# Altium footprint library SATELLITE_4U_LASER_EXT_1.4.0.PcbLib: 9 footprints
Each footprint in its own frame and in the unit in brackets; x right, y up, seen from the top. Pads: shape width x height; smd on the part's side, far side on the other; paste and mask are expansions set on the pad; w line width, h text height; cw(c..) or ccw(c..) is an arc to the next point about the centre after c.
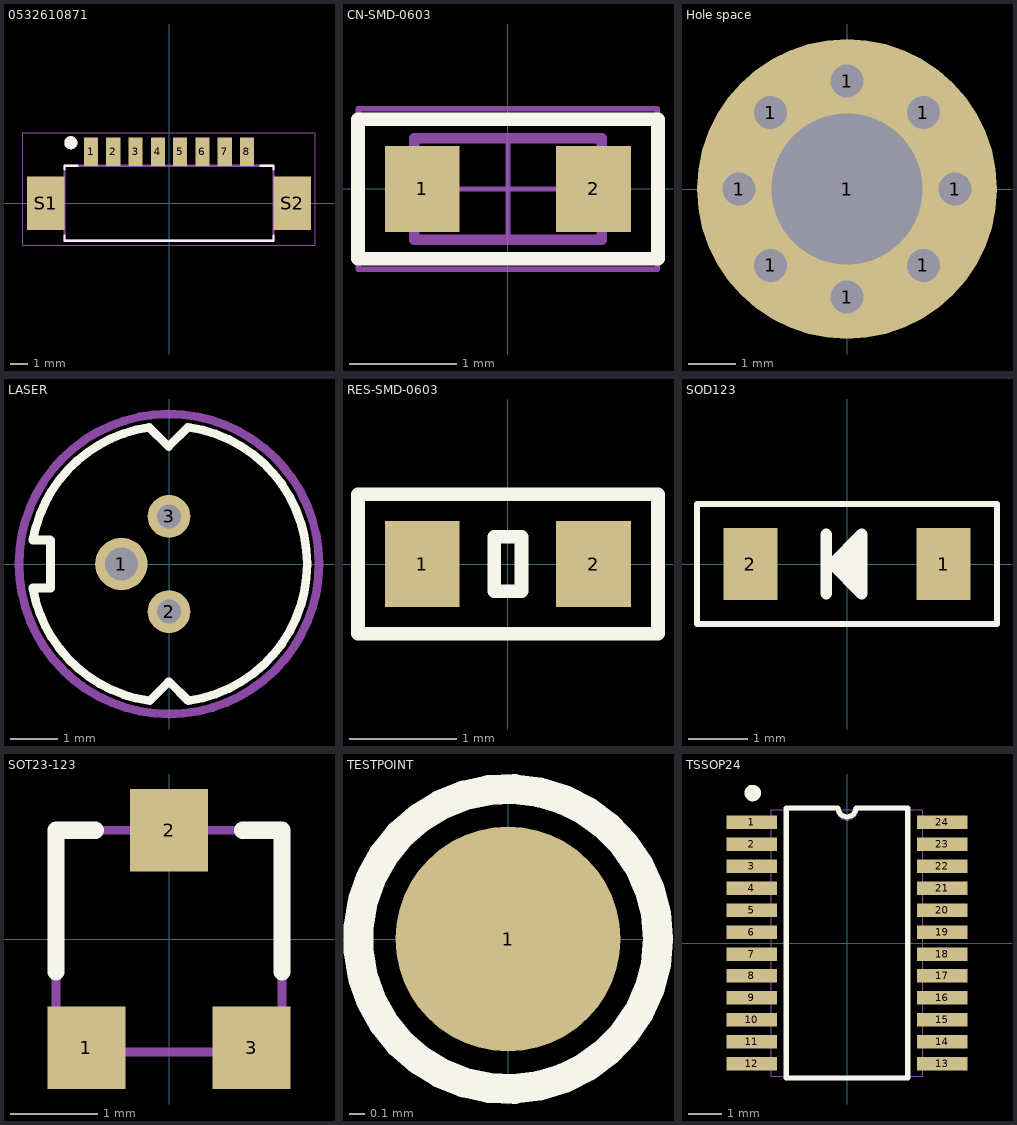
[diagram p0: the footprints below, top view; thin cyan lines are the x and y axes]

## 0532610871 [mm]
pads (10):
  rect 0.8x1.6 smd: 1(-4.375,2.9) 2(-3.125,2.9) 3(-1.875,2.9) 4(-0.625,2.9) 5(0.625,2.9) 6(1.875,2.9) 7(3.125,2.9) 8(4.375,2.9)
  rect 2.1x3 smd: S1(-6.925,0) S2(6.925,0)
Top Overlay:
  circle w0.381: c-5.515,3.4 r0.178
  lines w0.127: -5.875,-1.825 -5.875,-2.1 5.875,-2.1 5.875,-1.825 ; -5.875,1.9 -5.875,2.1 -5.15,2.1 ; 5.15,2.1 5.875,2.1 5.875,1.9
Top Assembly:
  circle w0.381: c-5.515,3.4 r0.178
  lines w0.127: -5.875,-2.1 5.875,-2.1 5.875,2.1 -5.875,2.1 -5.875,-2.1
  text "'.Designator'" at -9.318,-1.454 h1.8
Mechanical 15:
  lines w0.05: -8.225,-2.35 8.225,-2.35 8.225,3.95 -8.225,3.95 -8.225,-2.35
3D body "532610871.stp": height 3.2, standoff -0.2, extent -7.575,-1.8 7.575,3.4

## CN-SMD-0603 [mm]
pads (2):
  rect 0.7x0.8 smd: 1(-0.8,0) 2(0.8,0)
Top Overlay:
  lines w0.127: -1.4,-0.65 -1.4,0.651 1.401,0.651 1.401,-0.65 -1.4,-0.65
Top Courtyard:
  lines w0.05: -0.475,0 0.475,0 ; 0,-0.475 0,0.475 ; -1.397,-0.75 -1.397,0.75 1.397,0.75 1.397,-0.75 -1.397,-0.75
Top 3D Body:
  lines w0.1: -0.875,-0.475 -0.875,0.475 0.875,0.475 0.875,-0.475 -0.875,-0.475
3D body "User Library-0603 SMD Capacitor.step": height 0.3, standoff 0, extent -0.8,-0.4 0.8,0.4

## Hole space [mm]
pads (9):
  round 1 hole 0.7: 1(-2.286,0) 1(-1.616,-1.616) 1(-1.616,1.616) 1(0,-2.286) 1(0,2.286) 1(1.616,-1.616) 1(1.616,1.616) 1(2.286,0)
  round 6.35 hole 3.2: 1(0,0)

## LASER [mm]
pads (3):
  round 1.1 hole 0.7 mask+0.102: 1(-1,0)
  round 0.9 hole 0.5 mask+0.102: 2(0,-1) 3(0,1)
Top Overlay:
  lines w0.18: -2.864,-0.506 ccw(c-0.004,-0.002) -0.409,-2.877 -0.407,-2.877 -0.01,-2.48 0.009,-2.48 0.404,-2.875 ccw(c0,0) 0.404,2.875 ; -2.859,-0.504 -2.49,-0.504 -2.49,0.498 ; -2.496,0.504 -2.859,0.504 cw(c0,0) -0.413,2.874 ; -0.413,2.871 -0.009,2.466 0.398,2.873
Mechanical 15:
  lines w0.18: 3.152,0 cw(c0,0) 3.152,0.01
3D body "Laser diode ML101J25.SLDPRT": height 3.7, standoff -6.8, extent -2.759,-2.777 2.796,2.773

## RES-SMD-0603 [mm]
pads (2):
  rect 0.7x0.8 smd: 1(-0.8,0) 2(0.8,0)
Top Overlay:
  lines w0.127: -1.4,-0.65 -1.4,0.651 1.401,0.651 1.401,-0.65 -1.4,-0.65 ; -0.127,-0.254 -0.127,0.254 0.127,0.254 0.127,-0.254 -0.127,-0.254
3D body "User Library-SMD RESISTOR-1 (3).step": height 0.43, standoff -0.03, extent -0.8,-0.4 0.8,0.4

## SOD123 [mm]
pads (2):
  rect 0.91x1.22 smd: 1(1.635,0) 2(-1.635,0)
Top Overlay:
  lines w0.102: -2.54,-1.016 2.54,-1.016 2.54,1.016 -2.54,1.016 -2.54,-1.016
  lines w0.2: -0.35,-0.5 -0.35,0.5 ; 0,-0.15 0,-0.075 -0.075,0 0,0.075 0,0.15 ; 0.15,-0.3 0.15,0.3 ; -0.25,0 0.25,0.5 0.25,-0.5 -0.25,0
3D body "User Library-SOD-123.step": height 1.25, standoff 0, extent -1.849,-0.8 1.849,0.8

## SOT23-123 [mm]
pads (3):
  rect 0.9x0.95 smd: 1(-0.95,-1.25) 2(0,1.25) 3(0.95,-1.25)
Top Overlay:
  lines w0.2: -1.3,-0.375 -1.3,1.25 -0.85,1.25 ; 0.85,1.25 1.3,1.25 1.3,-0.375
Mechanical 7:
  rectangle: -0.3,1.25 0.3,1.5
  region: -0.625,-1.275 -1.225,-1.275 -1.225,-1.525 -0.625,-1.525
  region: 1.225,-1.275 0.625,-1.275 0.625,-1.525 1.225,-1.525
  lines w0.1: -1.3,-1.3 -1.3,1.25 1.3,1.25 1.3,-1.3 -1.3,-1.3
  text ".Comment" at -1.2,0.325 h0.5
  text ".Designator" at -1.2,0.75 h0.5
3D body "SW3DPS-SOT-23-DEFAULT.STEP": height 1.06, standoff -0.04, extent -1.524,-1.23 1.476,1.27

## TESTPOINT [mm]
pads (1):
  round 1.5 smd: 1(0,0)
Top Overlay:
  circle w0.2: c0,0 r1

## TSSOP24 [mm]
pads (24):
  rect 1.5x0.4 smd: 1(-2.819,3.575) 2(-2.819,2.925) 3(-2.819,2.275) 4(-2.819,1.625) 5(-2.819,0.975) 6(-2.819,0.325) 7(-2.819,-0.325) 8(-2.819,-0.975) 9(-2.819,-1.625) 10(-2.819,-2.275) 11(-2.819,-2.925) 12(-2.819,-3.575) 13(2.819,-3.575) 14(2.819,-2.925) 15(2.819,-2.275) 16(2.819,-1.625) 17(2.819,-0.975) 18(2.819,-0.325) 19(2.819,0.325) 20(2.819,0.975) 21(2.819,1.625) 22(2.819,2.275) 23(2.819,2.925) 24(2.819,3.575)
Top Overlay:
  circle w0.25: c-2.794,4.445 r0.12
  lines w0.15: -1.8,-4 1.8,-4 1.8,4 0.262,4 cw(c0,4) -0.262,4 -1.8,4 -1.8,-4
Mechanical 13:
  lines w0: -0.305,3.95 ccw(c0,3.95) 0.305,3.95
  lines w0.025: -3.2,-3.727 -2.248,-3.727 -2.248,-3.423 -3.2,-3.423 -3.2,-3.727 ; -3.2,-3.077 -2.248,-3.077 -2.248,-2.773 -3.2,-2.773 -3.2,-3.077 ; -3.2,-2.427 -2.248,-2.427 -2.248,-2.123 -3.2,-2.123 -3.2,-2.427 ; -3.2,-1.777 -2.248,-1.777 -2.248,-1.473 -3.2,-1.473 -3.2,-1.777 ; -3.2,-1.127 -2.248,-1.127 -2.248,-0.823 -3.2,-0.823 -3.2,-1.127 ; -3.2,-0.477 -2.248,-0.477 -2.248,-0.173 -3.2,-0.173 -3.2,-0.477 ; -3.2,0.173 -2.248,0.173 -2.248,0.477 -3.2,0.477 -3.2,0.173 ; -3.2,0.823 -2.248,0.823 -2.248,1.127 -3.2,1.127 -3.2,0.823 ; -3.2,1.473 -2.248,1.473 -2.248,1.777 -3.2,1.777 -3.2,1.473 ; -3.2,2.123 -2.248,2.123 -2.248,2.427 -3.2,2.427 -3.2,2.123 ; -3.2,2.773 -2.248,2.773 -2.248,3.077 -3.2,3.077 -3.2,2.773 ; -3.2,3.423 -2.248,3.423 -2.248,3.727 -3.2,3.727 -3.2,3.423 ; -2.248,-3.95 -2.248,3.95 2.248,3.95 2.248,-3.95 -2.248,-3.95 ; 2.248,-3.727 3.2,-3.727 3.2,-3.423 2.248,-3.423 2.248,-3.727 ; 2.248,-3.077 3.2,-3.077 3.2,-2.773 2.248,-2.773 2.248,-3.077 ; 2.248,-2.427 3.2,-2.427 3.2,-2.123 2.248,-2.123 2.248,-2.427 ; 2.248,-1.777 3.2,-1.777 3.2,-1.473 2.248,-1.473 2.248,-1.777 ; 2.248,-1.127 3.2,-1.127 3.2,-0.823 2.248,-0.823 2.248,-1.127 ; 2.248,-0.477 3.2,-0.477 3.2,-0.173 2.248,-0.173 2.248,-0.477 ; 2.248,0.173 3.2,0.173 3.2,0.477 2.248,0.477 2.248,0.173 ; 2.248,0.823 3.2,0.823 3.2,1.127 2.248,1.127 2.248,0.823 ; 2.248,1.473 3.2,1.473 3.2,1.777 2.248,1.777 2.248,1.473 ; 2.248,2.123 3.2,2.123 3.2,2.427 2.248,2.427 2.248,2.123 ; 2.248,2.773 3.2,2.773 3.2,3.077 2.248,3.077 2.248,2.773 ; 2.248,3.423 3.2,3.423 3.2,3.727 2.248,3.727 2.248,3.423
3D body "User Library-IPC SO.step": height 1.25, standoff 0, extent -3.228,-3.95 3.228,3.95